# Altium integrated library SMD-RES-10K-5_-1__0402_.IntLib: 1 symbol
Pins are listed as number, name and electrical type; pins without a type are passive.

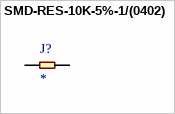
[diagram p0: symbol SMD-RES-10K-5%-1/(0402)]

## SMD-RES-10K-5%-1/(0402)
designator J?
301010004; MF: {'manufacturer': u'YAGEO'}; MP: RC0402JR-0710KL; Package: None; Price: None; Value: *; Availability: Unavailable
footprint R0402
pins: 1, 2